# EAGLE library part PE42423 (library RitLaunchInitiative)
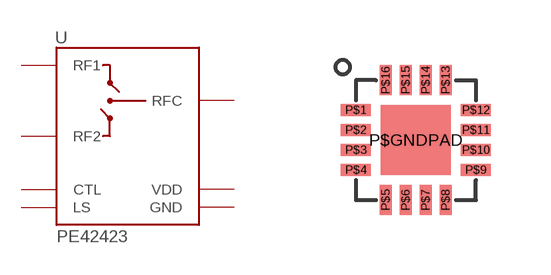
[diagram p4: symbol with the pads of 16-QFN; footprint 16-QFN]

Designator prefix -

## PE42423  [16-QFN]
P$1  GND
P$2  RF1
P$3  GND
P$4  GND
P$5  GND
P$6  GND
P$7  RFC
P$8  GND
P$9  GND
P$10  GND
P$11  RF2
P$12  GND
P$13  GND
P$14  CTL
P$15  LS
P$16  VDD
P$GNDPAD  GND

## Footprint 16-QFN (pad centres in mm)
smd 0.75 x 0.3: P$1 -1.5,0.75; P$2 -1.5,0.25; P$3 -1.5,-0.25; P$4 -1.5,-0.75; P$9 1.5,-0.75; P$10 1.5,-0.25; P$11 1.5,0.25; P$12 1.5,0.75
smd 0.3 x 0.75: P$5 -0.75,-1.5; P$6 -0.25,-1.5; P$7 0.25,-1.5; P$8 0.75,-1.5; P$13 0.75,1.5; P$14 0.25,1.5; P$15 -0.25,1.5; P$16 -0.75,1.5
smd 1.75 x 1.75: P$GNDPAD 0,0